# EAGLE library part TLP291-4 (library toshiba)
Photocoupler (transistor output) Source: http://www.semicon.toshiba.co.jp/info/docget.jsp?type=datasheet&lang=ja&pid=TLP291-4 http://www.semicon.toshiba.co.jp/info/docget.jsp?type=datasheet&lang=en&pid=TLP291-4
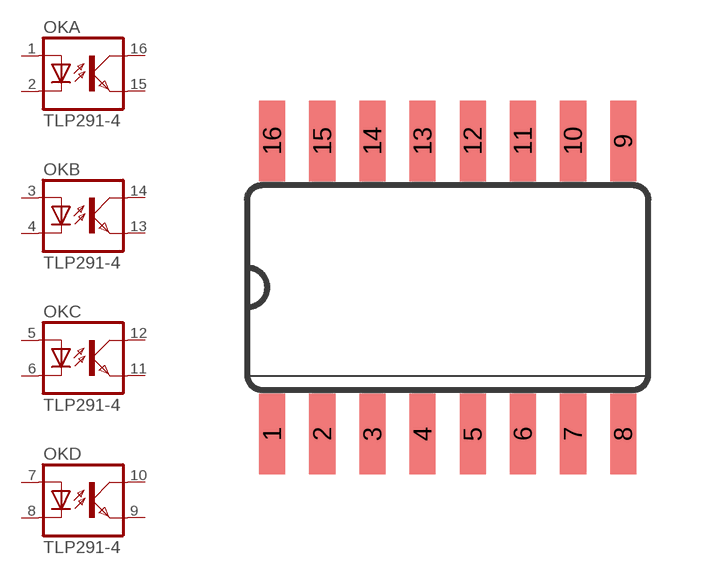
[diagram p1: symbol with the pads of SO16; footprint SO16]

Designator prefix OK; gates A=OK B=OK C=OK D=OK

## TLP291-4  [SO16]
1  A:A  pas
2  A:C  pas
3  B:A  pas
4  B:C  pas
5  C:A  pas
6  C:C  pas
7  D:A  pas
8  D:C  pas
9  D:EMIT  pas
10  D:COL  pas
11  C:EMIT  pas
12  C:COL  pas
13  B:EMIT  pas
14  B:COL  pas
15  A:EMIT  pas
16  A:COL  pas

## Footprint SO16 (pad centres in mm)
Wide Small Outline package 250 mil
smd 0.66 x 2.032: 1 -3.81,-3.708; 2 -2.54,-3.708; 3 -1.27,-3.708; 4 0,-3.708; 5 1.27,-3.708; 6 2.54,-3.708; 7 3.81,-3.708; 8 5.08,-3.708; 9 5.08,3.708; 10 3.81,3.708; 11 2.54,3.708; 12 1.27,3.708; 13 0,3.708; 14 -1.27,3.708; 15 -2.54,3.708; 16 -3.81,3.708